# EAGLE library part SDCARD (library sdcard)
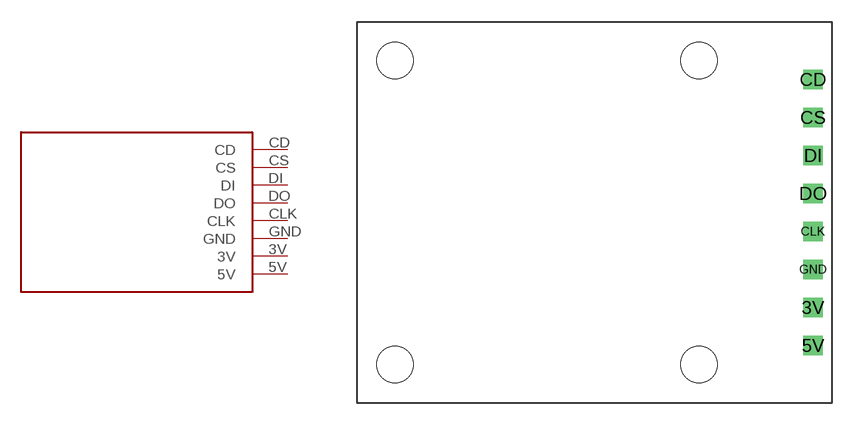
[diagram p0: symbol with the pads of SDCARD; footprint SDCARD]

Designator prefix -

## SDCARD  [SDCARD]
3V  3V
5V  5V
CD  CD
CLK  CLK
CS  CS
DI  DI
DO  DO
GND  GND

## Footprint SDCARD (pad centres in mm)
drill 0.8 square: 3V 30.48,6.35; 5V 30.48,3.81; CD 30.48,21.59; CLK 30.48,11.43; CS 30.48,19.05; DI 30.48,16.51; DO 30.48,13.97; GND 30.48,8.89
hole 2.449 at 2.54,22.86
hole 2.46 at 2.54,2.54
hole 2.449 at 22.86,2.54
hole 2.449 at 22.86,22.86